# Altium footprint library W25Q_XSON_8.PcbLib: 1 footprints
Each footprint in its own frame and in the unit in brackets; x right, y up, seen from the top. Pads: shape width x height; smd on the part's side, far side on the other; paste and mask are expansions set on the pad; w line width, h text height; cw(c..) or ccw(c..) is an arc to the next point about the centre after c.
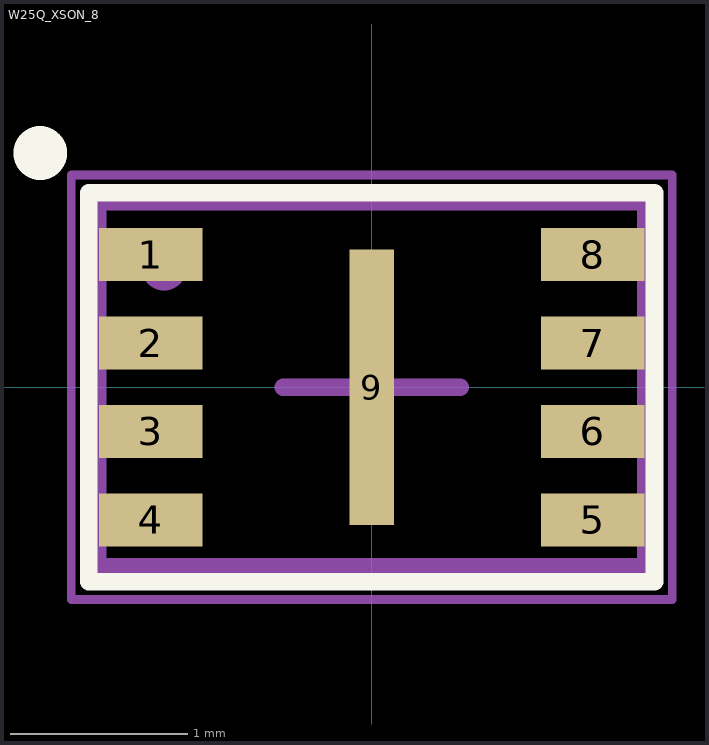
[diagram p0: the footprint, top view; thin cyan lines are the x and y axes]

## W25Q_XSON_8 [mm] "Winbond Flash 8 pin uSON"
height 0.6
pads (9):
  rect 0.584x0.3 smd mask+0.05: 1(-1.25,0.75) 2(-1.25,0.25) 3(-1.25,-0.25) 4(-1.25,-0.75) 5(1.25,-0.75) 6(1.25,-0.25) 7(1.25,0.25) 8(1.25,0.75)
  rect 0.25x1.56 smd: 9(0,0)
Top Overlay:
  circle w0.254: c-1.875,1.325 r0.025
  lines w0.1: -1.6,-1.1 -1.6,1.1 1.6,1.1 1.6,-1.1 -1.6,-1.1
Mechanical 15:
  lines w0.05: -1.7,-1.2 1.7,-1.2 1.7,1.2 -1.7,1.2 -1.7,-1.2
  lines w0.1: -0.5,0 0.5,0 ; 0,-0.5 0,0.5
Mechanical 29:
  lines w0.1: -1.55,-1.016 1.55,-1.016 1.55,1.05 -1.55,1.05 -1.55,-1.016
  lines w0.254: -1.175,0.675 ccw(c-1.354,0.694) -1.174,0.694
  text ".Designator" at -1.27,-0.508 h1
3D body "step_temp.STEP": height 0.6, standoff 0, extent -1.5,-1 1.5,1